# EAGLE library part NOKIA5110 (library pocketmagic)
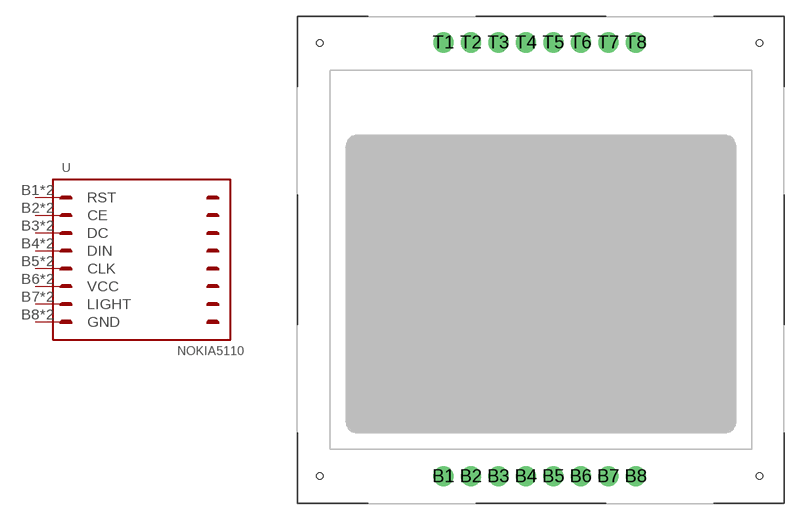
[diagram p0: symbol with the pads of NOKIA5110; footprint NOKIA5110]

Designator prefix -

## NOKIA5110  [NOKIA5110]
B1  RST
B2  CE
B3  DC
B4  DIN
B5  CLK
B6  VCC
B7  LIGHT
B8  GND
T1  RST
T2  CE
T3  DC
T4  DIN
T5  CLK
T6  VCC
T7  LIGHT
T8  GND

## Footprint NOKIA5110 (pad centres in mm)
drill 1.016 pad 1.88: B1 -0.01,0; B2 2.53,0; B3 5.07,0; B4 7.61,0; B5 10.15,0; B6 12.69,0; B7 15.23,0; B8 17.77,0; T1 -0.01,40.08; T2 2.53,40.08; T3 5.07,40.08; T4 7.61,40.08; T5 10.15,40.08; T6 12.69,40.08; T7 15.23,40.08; T8 17.77,40.08
hole 0.6 at -11.43,0
hole 0.6 at 29.21,0
hole 0.6 at -11.43,40.005
hole 0.6 at 29.21,40.005